# EAGLE library part PINHD-FTDI (library kyle)
Header for Sparkfun's FTDI breakout board
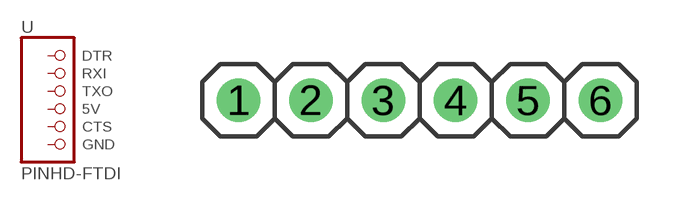
[diagram p4: symbol with the pads of 1X6; footprint 1X6]

Designator prefix -

## PINHD-FTDI  [1X6]
1  DTR
2  RXI
3  TXO
4  5V
5  CTS
6  GND

## Footprint 1X6 (pad centres in mm)
drill 1.016: 1 -6.35,0; 2 -3.81,0; 3 -1.27,0; 4 1.27,0; 5 3.81,0; 6 6.35,0